# Altium footprint library PcbLib1.PcbLib: 12 footprints
Each footprint in its own frame and in the unit in brackets; x right, y up, seen from the top. Pads: shape width x height; smd on the part's side, far side on the other; paste and mask are expansions set on the pad; w line width, h text height; cw(c..) or ccw(c..) is an arc to the next point about the centre after c.
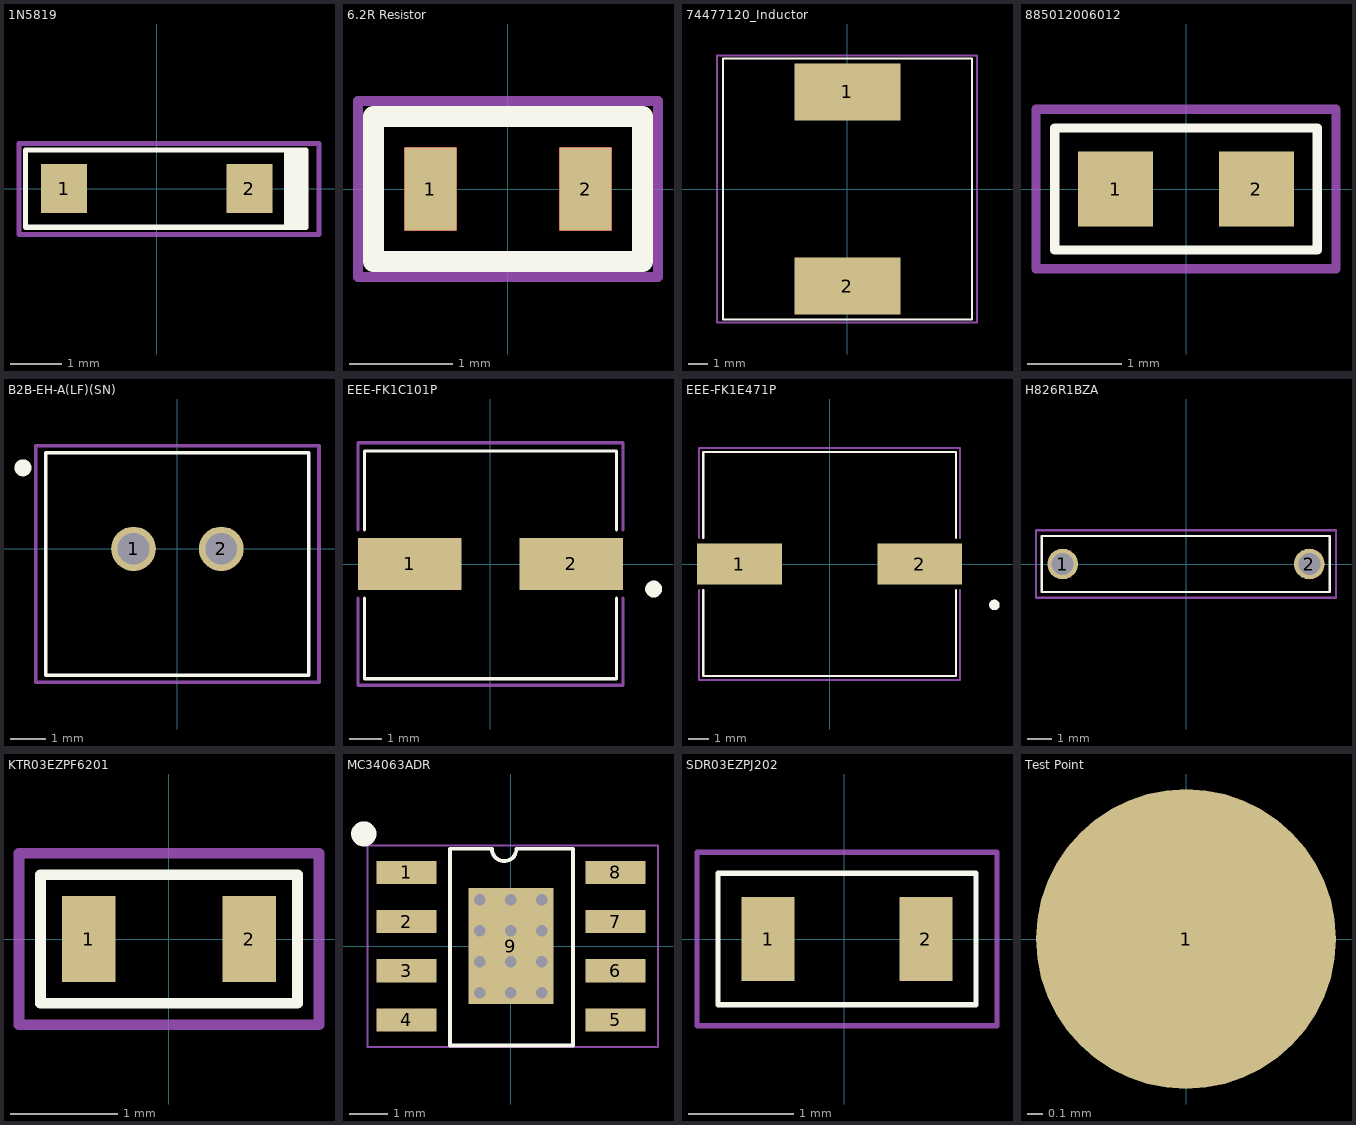
[diagram p0: the footprints below, top view; thin cyan lines are the x and y axes]

## 1N5819 [mm] "SOD_23"
pads (2):
  rect 0.9x0.95 smd: 1(-1.8,0) 2(1.8,0)
Top Overlay:
  rectangle: 2.525,-0.75 2.9,0.75
  lines w0.1: 2.525,-0.75 2.9,-0.75 2.9,0.75 2.525,0.75 ; 2.525,-0.75 2.525,-0.375 2.525,0.375 2.525,0.75 ; 2.525,-0.75 -1.8,-0.75 -2.55,-0.75 -2.55,0.75 -1.8,0.75 2.525,0.75
Mechanical Layer:
  lines w0.1: 3.135,0.875 -1.8,0.875 -2.675,0.875 -2.675,-0.003 -2.675,-0.89 -1.8,-0.89 3.135,-0.89 3.15,-0.89 3.15,0.875
3D body "1N5819HW-7-F--3DModel-STEP-56544.STEP": height 1.5, standoff -0.03, extent -1.8,-0.775 1.85,0.775

## 6.2R Resistor [mm]
pads (2):
  rect 0.5x0.8 smd mask+0.08: 1(-0.75,0) 2(0.75,0)
Top Layer:
  lines w0.013: -1,-0.4 -1,0.4 -0.5,0.4 -0.5,-0.4 -1,-0.4 ; 0.5,-0.4 0.5,0.4 1,0.4 1,-0.4 0.5,-0.4
Top Overlay:
  lines w0.2: -1.3,-0.7 1.3,-0.7 1.3,0.7 -1.3,0.7 -1.3,-0.7
Mechanical Layer:
  lines w0.1: -1.45,-0.85 -1.45,0.85 1.45,0.85 1.45,-0.85 -1.45,-0.85

## 74477120_Inductor [mm]
pads (2):
  rect 5.4x2.9 smd: 1(0,4.95) 2(0,-4.95)
Top Overlay:
  lines w0.1: 6.35,6.65 6.35,4.95 6.35,2.35 6.35,2.3 6.35,-6.65 0,-6.65 -6.35,-6.65 -6.35,4.95 -6.35,6.65 0,6.65 6.35,6.65 ; 6.35,6.65 6.35,6.65
Mechanical Layer:
  lines w0.1: -6.65,-4.95 -6.65,-6.8 -6.2,-6.8 0,-6.8 6.6,-6.8 6.6,-4.95 ; -6.65,-4.9 -6.65,4.95 -6.65,6.8 0,6.8 ; 6.6,-4.9 6.6,4.95 6.6,6.8 0,6.8 ; 0,6.8 0,6.8
3D body "IND_1260-WE-PD_WRE.step": height 6.12, standoff 0.13, extent -6.147,-6.147 6.147,6.147

## 885012006012 [mm] "CAP_0603"
pads (2):
  rect 0.8x0.8 smd: 1(-0.75,0) 2(0.75,0)
Top Overlay:
  lines w0.1: -1.4,-0.65 -0.75,-0.65 0.75,-0.65 1.4,-0.65 1.4,0 1.4,0.65 0.75,0.65 -0.75,0.65 -1.4,0.65 -1.4,0 -1.4,-0.65
Mechanical Layer:
  lines w0.1: -1.6,-0.85 -0.75,-0.85 0.75,-0.85 1.6,-0.85 1.6,0 1.6,0.85 0.75,0.85 -0.75,0.85 -1.6,0.85 -1.6,0 -1.6,-0.85
3D body "Download_STP_8850122060xx_rev1.stp": height 0.8, standoff 0, extent -0.8,-0.4 0.8,0.4

## B2B-EH-A(LF)(SN) [mm] "JST 2-PIN CONN"
pads (2):
  round 1.27 hole 0.9: 1(-1.25,0) 2(1.25,0)
Top Overlay:
  circle w0.254: c-4.4,2.31 r0.114
  lines w0.1: -3.75,-3.603 3.75,-3.603 3.75,2.739 -3.75,2.739 -3.75,1.9 -3.75,-1.9 -3.75,-3.6
Mechanical Layer:
  lines w0.1: -4.037,-3.803 -4.037,2.939 4.037,2.939 4.037,-3.803 -4.037,-3.803
3D body "JST - XH - Thru - 2Pin - 2.5mm (Genuine).stp": height 7.26, standoff -2.95, extent -3.587,-3.353 3.587,2.489

## EEE-FK1C101P [mm] "PANASONIC_CAP_AE_D"
pads (2):
  rect 3.2x1.6 smd: 1(-2.5,0) 2(2.5,0)
Top Overlay:
  circle w0.254: c5.05,-0.775 r0.135
  lines w0.1: -3.9,-1.05 -3.9,-3.55 3.9,-3.55 3.9,-1.05 ; -3.9,1.05 -3.9,3.5 3.9,3.5 3.9,1.05
Mechanical Layer:
  lines w0.1: -4.1,-1.05 -4.1,-3.75 4.1,-3.75 4.1,-1.05 ; -4.1,1.05 -4.1,3.5 -4.1,3.75 4.1,3.75 4.1,1.05
3D body "EEE-FK1C101P_100uF.STEP": height 5.83, standoff 0.03, extent -3.65,-3.3 3.65,3.3

## EEE-FK1E471P [mm] "CAP_AE_G (ø10x10.2L)"
pads (2):
  rect 4.1x2 smd: 1(-4.35,0) 2(4.35,0)
Top Overlay:
  circle w0.254: c7.95,-1.975 r0.127
  lines w0.1: -6.1,1.25 -6.1,5.4 6.1,5.4 6.1,1.25 ; -6.099,-1.25 -6.099,-5.4 6.1,-5.4 6.1,-1.25
Mechanical Layer:
  lines w0.1: -6.3,-1.25 -6.3,-5.6 6.3,-5.6 6.3,-1.25 ; -6.3,1.25 -6.3,5.6 6.3,5.6 6.3,1.25
3D body "EEE-FK1E471P_470uF.STEP": height 10.2, standoff 0, extent -5.85,-5.15 5.85,5.15

## H826R1BZA [mm] "RES_TH"
pads (2):
  round 1.27 hole 0.9: 1(-5.1,0) 2(5.1,0)
Top Overlay:
  lines w0.1: -5.957,-1.156 -5.957,1.14 ; -5.957,1.156 5.08,1.156 5.915,1.156 ; -5.941,-1.156 -5.084,-1.156 5.935,-1.156 5.935,0 5.935,1.156 ; -5.1,0 -5.1,0 ; -5.1,0 -5.1,0 ; 5.1,0 5.1,0 ; 5.1,0 5.1,0
Mechanical Layer:
  lines w0.1: -6.2,-1.4 -6.2,-1.4 ; -6.2,-1.4 -6.2,0 -6.2,1.4 6.2,1.4 6.2,0 6.2,-1.4 4.994,-1.4 -5.206,-1.4 -6.2,-1.4
3D body "27R 0.4.STEP": height 2.93, standoff -2.54, extent -5.405,-1.156 5.365,1.156

## KTR03EZPF6201 [mm] "RES_0603"
pads (2):
  rect 0.5x0.8 smd: 1(-0.75,0) 2(0.75,0)
Top Overlay:
  lines w0.1: -1.2,-0.6 -0.75,-0.6 1.2,-0.6 1.2,0.6 0.75,0.6 -0.75,0.6 -1.2,0.6 -1.2,0 -1.2,-0.6
Mechanical Layer:
  lines w0.1: -1.4,-0.8 -1.4,0.8 -0.75,0.8 1.4,0.8 1.4,-0.8 0.75,-0.8 -0.75,-0.8 -1.4,-0.8
3D body "RES_R0603_ROM.step": height 0.56, standoff 0, extent -0.851,-0.444 0.851,0.444

## MC34063ADR [mm] "SOP_8"
pads (9):
  rect 1.55x0.6 smd: 1(-2.7,1.905) 2(-2.7,0.635) 3(-2.7,-0.635) 4(-2.7,-1.905) 5(2.7,-1.905) 6(2.7,-0.635) 7(2.7,0.635) 8(2.7,1.905)
  rect 2.2x3 smd: 9(0,0)
via -0.8,1.2 diameter 0.6 hole 0.3
via 0,1.2 diameter 0.6 hole 0.3
via 0.8,1.2 diameter 0.6 hole 0.3
via -0.8,0.4 diameter 0.6 hole 0.3
via 0,0.4 diameter 0.6 hole 0.3
via 0.8,0.4 diameter 0.6 hole 0.3
via -0.8,-0.4 diameter 0.6 hole 0.3
via 0,-0.4 diameter 0.6 hole 0.3
via 0.8,-0.4 diameter 0.6 hole 0.3
via -0.8,-1.2 diameter 0.6 hole 0.3
via 0,-1.2 diameter 0.6 hole 0.3
via 0.8,-1.2 diameter 0.6 hole 0.3
Top Overlay:
  circle w0.35: c-3.8,2.9 r0.15
  lines w0.1: -1.575,-2.565 1.6,-2.565 1.6,2.515 0.143,2.515 cw(c-0.175,2.515) -0.492,2.515 -1.575,2.515 -1.575,-2.565
Mechanical Layer:
  lines w0.05: -3.7,-2.6 3.8,-2.6 3.8,2.6 -3.7,2.6 -3.7,-2.6
3D body "MC34063ADR_IC.STEP": height 1.75, standoff 0, extent -2.997,-2.451 2.997,2.451

## SDR03EZPJ202 [mm] "RES_0603"
pads (2):
  rect 0.5x0.8 smd: 1(-0.725,0) 2(0.775,0)
Top Overlay:
  lines w0.05: -1.2,-0.625 -1.2,-0.6 -1.2,0.6 -1.2,0.625 -0.725,0.625 0.775,0.625 1.25,0.625 1.25,0.6 1.25,-0.6 1.25,-0.625 -0.725,-0.625 -1.2,-0.625
Mechanical Layer:
  lines w0.05: -1.4,-0.825 -1.4,0.825 1.45,0.825 1.45,-0.825 -1.4,-0.825
3D body "SDR03EZPJ202.STEP": height 0.55, standoff 0, extent -0.775,-0.4 0.825,0.4

## Test Point [mm]
pads (1):
  round 2 smd: 1(0,0)